# Altium footprint library RESC3116X65N.PcbLib: 1 footprints
Each footprint in its own frame and in the unit in brackets; x right, y up, seen from the top. Pads: shape width x height; smd on the part's side, far side on the other; paste and mask are expansions set on the pad; w line width, h text height; cw(c..) or ccw(c..) is an arc to the next point about the centre after c.
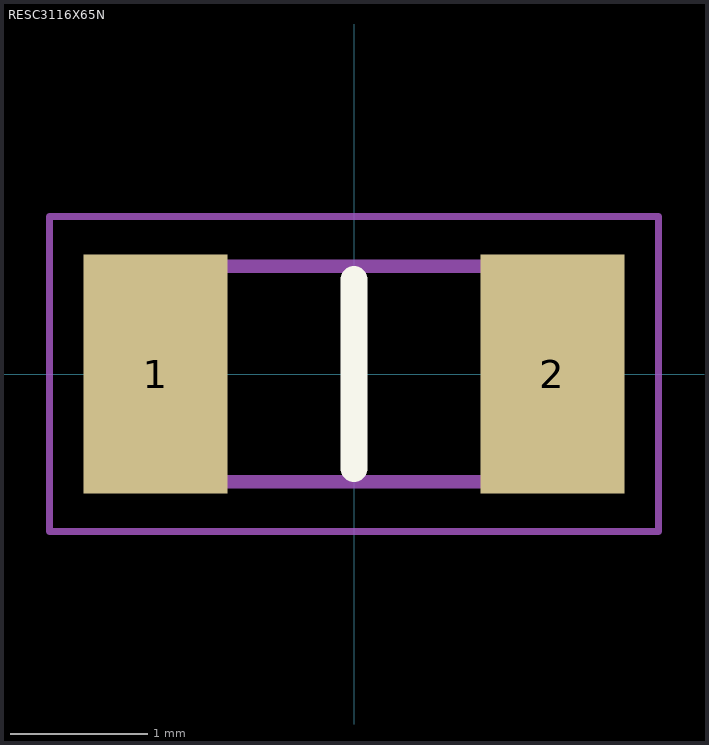
[diagram p0: the footprint, top view; thin cyan lines are the x and y axes]

## RESC3116X65N [mm]
pads (2):
  rect 1.05x1.75 smd: 1(-1.45,0) 2(1.45,0)
Top Overlay:
  lines w0.2: 0,-0.688 0,0.688
Mechanical 15:
  lines w0.1: -1.55,-0.788 1.55,-0.788 1.55,0.788 -1.55,0.788 -1.55,-0.788
Mechanical 20:
  lines w0.05: -2.225,-1.15 2.225,-1.15 2.225,1.15 -2.225,1.15 -2.225,-1.15